# EAGLE library part AS3935 (library AS3935)
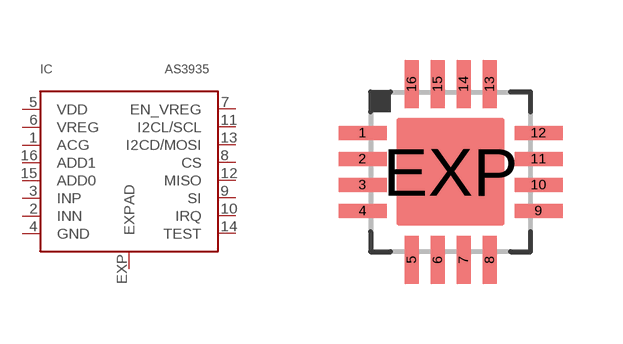
[diagram p0: symbol with the pads of 16LDMLPQ; footprint 16LDMLPQ]

Designator prefix IC

## AS3935  [16LDMLPQ]
1  ACG
2  INN
3  INP
4  GND  pwr
5  VDD  pwr
6  VREG
7  EN_VREG
8  CS
9  SI
10  IRQ
11  I2CL/SCL
12  MISO
13  I2CD/MOSI
14  TEST  pas
15  ADD0
16  ADD1
EXP  EXPAD  pwr

## Footprint 16LDMLPQ (pad centres in mm)
smd 1.2 x 0.35: 1 -2.2,0.975; 2 -2.2,0.325; 3 -2.2,-0.325; 4 -2.2,-0.975; 9 2.2,-0.975; 10 2.2,-0.325; 11 2.2,0.325; 12 2.2,0.975
smd 0.35 x 1.2: 5 -0.975,-2.2; 6 -0.325,-2.2; 7 0.325,-2.2; 8 0.975,-2.2; 13 0.975,2.2; 14 0.325,2.2; 15 -0.325,2.2; 16 -0.975,2.2
smd 2.7 x 2.7: EXP 0,0